# Altium footprint library QD3503728_PCB封装库.PcbLib: 1 footprints
Each footprint in its own frame and in the unit in brackets; x right, y up, seen from the top. Pads: shape width x height; smd on the part's side, far side on the other; paste and mask are expansions set on the pad; w line width, h text height; cw(c..) or ccw(c..) is an arc to the next point about the centre after c.
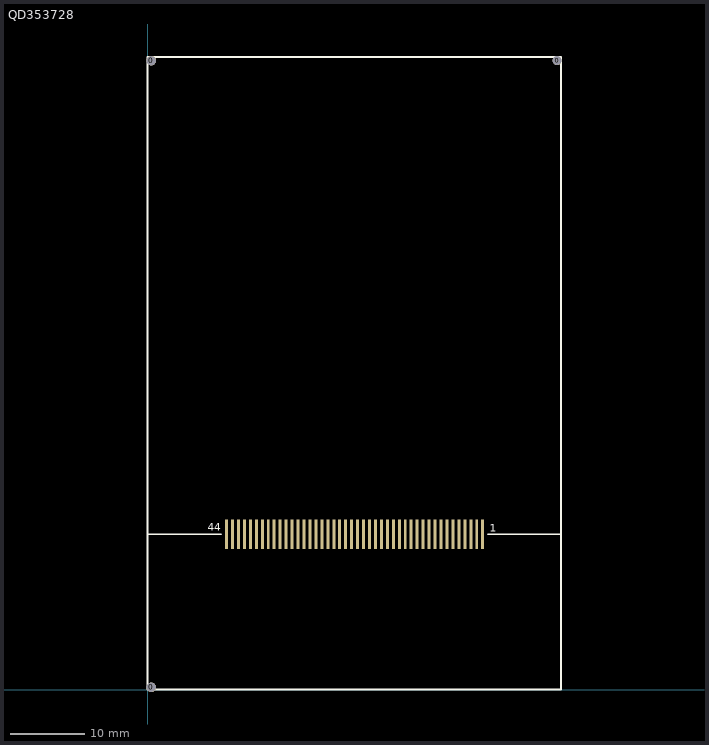
[diagram p0: the footprint, top view; thin cyan lines are the x and y axes]

## QD353728 [mm]
pads (47):
  round 1.3 hole 1.3: 0(0.5,0.3) 0(0.5,84.46)
  round 1.2 hole 1.2: 0(55,84.46)
  rect 0.4x4 smd: 1(45.008,20.87) 2(44.208,20.87) 3(43.408,20.87) 4(42.608,20.87) 5(41.808,20.87) 6(41.008,20.87) 7(40.208,20.87) 8(39.408,20.87) 9(38.608,20.87) 10(37.808,20.87) 11(37.008,20.87) 12(36.208,20.87) 13(35.408,20.87) 14(34.608,20.87) 15(33.808,20.87) 16(33.008,20.87) 17(32.208,20.87) 18(31.408,20.87) 19(30.608,20.87) 20(29.808,20.87) 21(29.008,20.87) 22(28.208,20.87) 23(27.408,20.87) 24(26.608,20.87) 25(25.808,20.87) 26(25.008,20.87) 27(24.208,20.87) 28(23.408,20.87) 29(22.608,20.87) 30(21.808,20.87) 31(21.008,20.87) 32(20.208,20.87) 33(19.408,20.87) 34(18.608,20.87) 35(17.808,20.87) 36(17.008,20.87) 37(16.208,20.87) 38(15.408,20.87) 39(14.608,20.87) 40(13.808,20.87) 41(13.008,20.87) 42(12.208,20.87) 43(11.408,20.87) 44(10.608,20.87)
Top Overlay:
  lines w0.254: -0.012,20.862 9.862,20.862 ; 45.712,20.862 55.412,20.862 ; 0,0 55.5,0 55.5,84.96 0,84.96 0,0
  text "44" at 8.105,21.345 h1.02
  text "1" at 45.956,21.222 h1.02